# Altium footprint library PCB - MECHANICAL - WURTH 74650194.PCBLIB: 1 footprints
Each footprint in its own frame and in the unit in brackets; x right, y up, seen from the top. Pads: shape width x height; smd on the part's side, far side on the other; paste and mask are expansions set on the pad; w line width, h text height; cw(c..) or ccw(c..) is an arc to the next point about the centre after c.
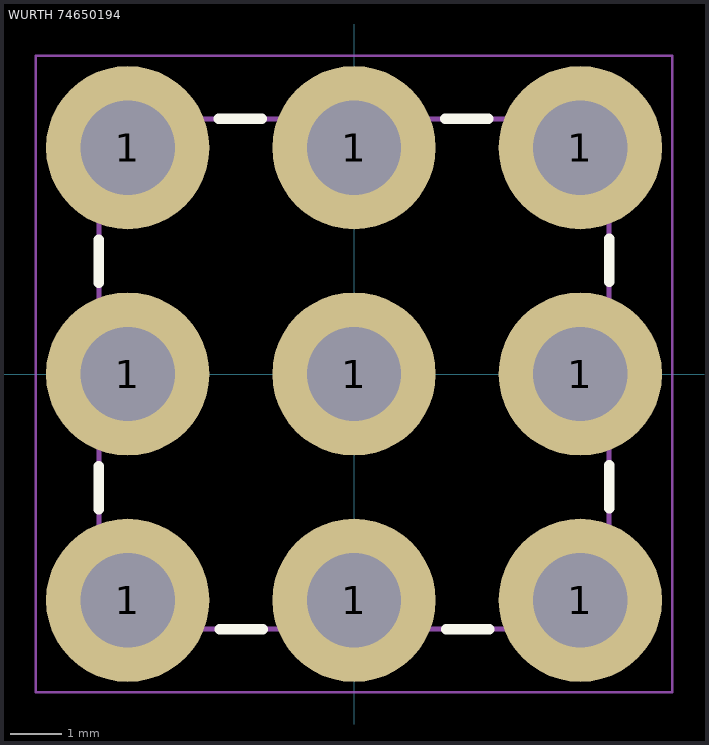
[diagram p0: the footprint, top view; thin cyan lines are the x and y axes]

## WURTH 74650194 [mm] "REDCUBE THR with internal thread, M4x4mm, blind"
height 7
pads (9):
  round 3.2 hole 1.85: 1(-4.435,-4.435) 1(-4.435,0) 1(-4.435,4.435) 1(0,-4.435) 1(0,0) 1(0,4.435) 1(4.435,-4.435) 1(4.435,0) 1(4.435,4.435)
Top Overlay:
  lines w0.2: -5,-2.65 -5,-1.8 ; -5,1.785 -5,2.635 ; -2.65,5 -1.8,5 ; -2.635,-5 -1.785,-5 ; 1.785,5 2.635,5 ; 1.8,-5 2.65,-5 ; 5,-2.635 5,-1.785 ; 5,1.8 5,2.65
Top Paste:
  drawing of 9 lines, arcs and shapes, not listed
Top Assembly:
  lines w0.05: -0.5,0 0.5,0 ; 0,-0.5 0,0.5
  lines w0.1: -5,-5 5,-5 5,5 -5,5 -5,-5
Top Courtyard:
  lines w0.05: -6.235,-6.235 -6.235,6.235 6.235,6.235 6.235,-6.235 -6.235,-6.235
3D body "Wurth 74650194.step": height 7, standoff -2.5, extent -5,-5 5,5